# Altium schematic symbol library Transformer GOST.SchLib: 9 symbols
Pins are listed as number, name and electrical type; pins without a type are passive.

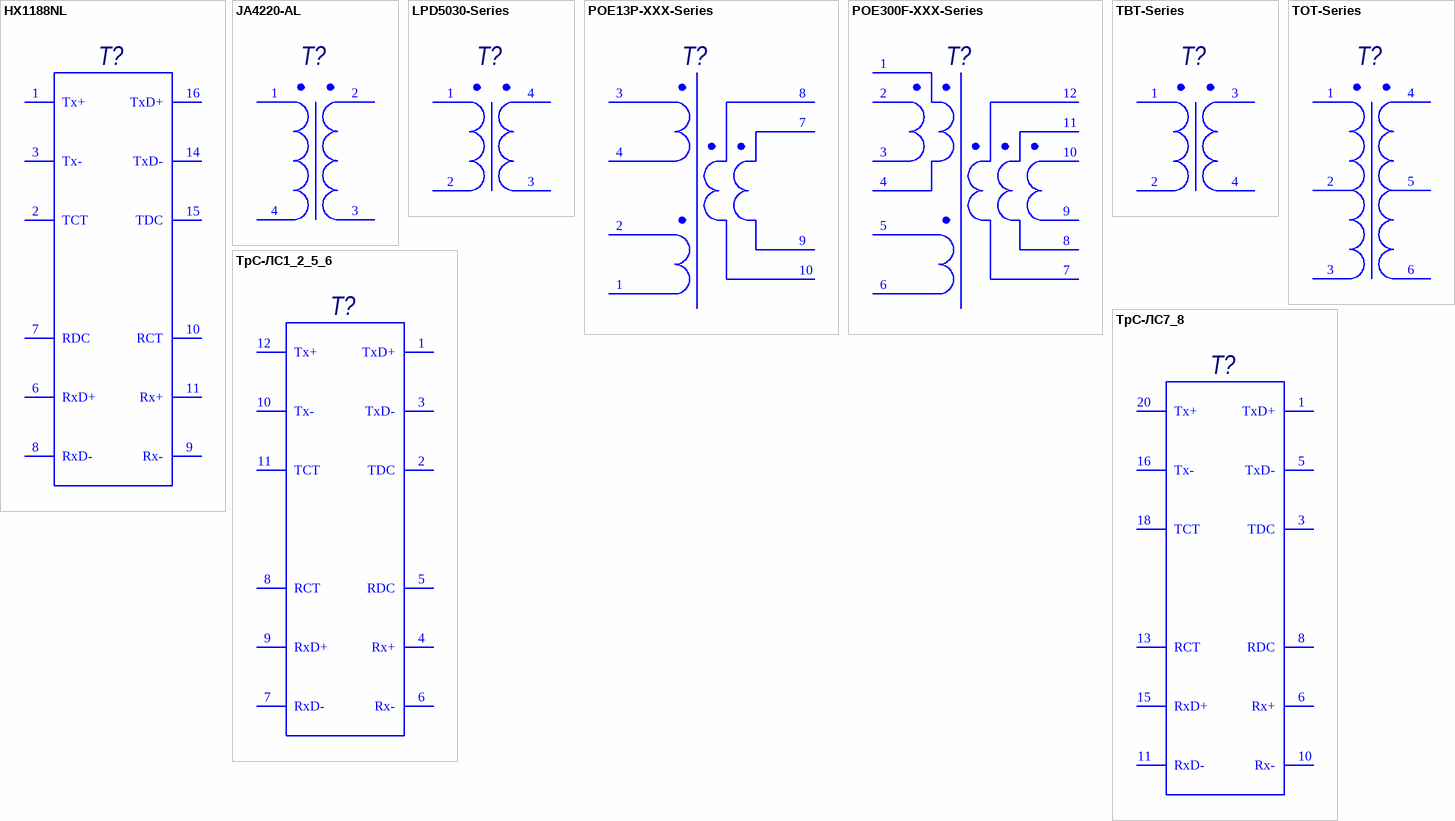
[diagram p0: symbols HX1188NL to ТрС-ЛС7_8]

## HX1188NL
designator T?
10/100Base-TX однопортовый трансформаторный модуль; Type: Трансформаторная сборка; Published: 16.07.2010; Publisher: Viktor Klishin
pins: 1 Tx+, 2 TCT, 3 Tx-, 6 RxD+, 7 RDC, 8 RxD-, 9 Rx-, 10 RCT, 11 Rx+, 14 TxD-, 15 TDC, 16 TxD+

## JA4220-AL
designator T?
RF Трансформатор, Согласующий, 1:1; Published: 09.12.2016; Publisher: Andrew Danich; Type: Трансформатор
pins: 1, 2, 3, 4

## LPD5030-Series
designator T?
Сдвоенная индуктивность для Flyback, SEPIC, Zeta; Type: Трансформатор; Published: 27.07.2015; Publisher: Andrew Danich
pins: 1, 2, 3, 4

## POE13P-XXX-Series
designator T?
PoE 13W Обратноходовый трансформатор; Published: 25.11.2016; Publisher: Andrew Danich; Type: Трансформатор
pins: 1, 2, 3, 4, 7, 8, 9, 10

## POE300F-XXX-Series
designator T?
PoE 30W Обратноходовый трансформатор; Published: 27.07.2015; Publisher: Andrew Danich; Type: Трансформатор
pins: 1, 2, 3, 4, 5, 6, 7, 8, 9, 10, 11, 12

## ТВТ-Series
designator T?
Трансформатор согласующий; Published: 02.12.2014; Publisher: Andrew Danich; Type: Трансформатор
pins: 1, 2, 3, 4

## ТОТ-Series
designator T?
Трансформатор согласующий; Published: 06.04.2010; Publisher: Viktor Klishin; Type: Трансформатор
pins: 1, 2, 3, 4, 5, 6

## ТрС-ЛС1_2_5_6
designator T?
10/100Base-TX однопортовый трансформаторный модуль; Type: Трансформаторная сборка; Published: 24.03.2014; Publisher: Andrew Danich
pins: 1 TxD+, 2 TDC, 3 TxD-, 4 Rx+, 5 RDC, 6 Rx-, 7 RxD-, 8 RCT, 9 RxD+, 10 Tx-, 11 TCT, 12 Tx+

## ТрС-ЛС7_8
designator T?
100Base-TX однопортовый трансформаторный модуль; Type: Трансформаторная сборка; Published: 20.11.2015; Publisher: Andrew Danich
pins: 1 TxD+, 3 TDC, 5 TxD-, 6 Rx+, 8 RDC, 10 Rx-, 11 RxD-, 13 RCT, 15 RxD+, 16 Tx-, 18 TCT, 20 Tx+